# Altium footprint library 103308-2.PcbLib: 2 footprints
Each footprint in its own frame and in the unit in brackets; x right, y up, seen from the top. Pads: shape width x height; smd on the part's side, far side on the other; paste and mask are expansions set on the pad; w line width, h text height; cw(c..) or ccw(c..) is an arc to the next point about the centre after c.
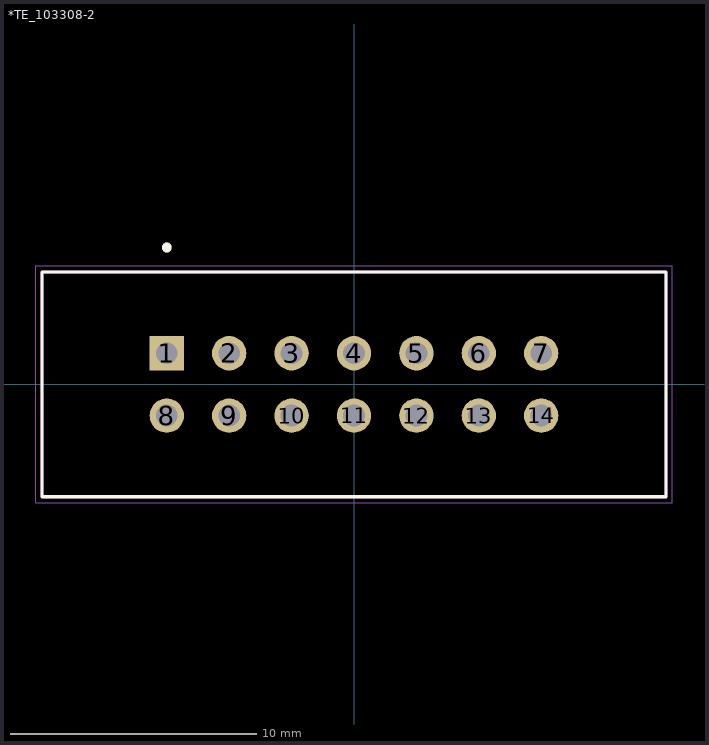
[diagram p0: the footprints below, top view; thin cyan lines are the x and y axes]

## *TE_103308-2 [mil]
pads (14):
  rect 55x55 hole 35: 1(-300,50)
  round 55 hole 35: 2(-200,50) 3(-100,50) 4(0,50) 5(100,50) 6(200,50) 7(300,50) 8(-300,-50) 9(-200,-50) 10(-100,-50) 11(0,-50) 12(100,-50) 13(200,-50) 14(300,-50)
Top Overlay:
  circle w7.87: c-300,219.37 r3.94
  lines w5: -500,-180 500,-180 500,180 -500,180 -500,-180
Mechanical 4:
  circle w7.87: c-300,219.37 r3.94
  circle w7.87: c-300,219.37 r3.94
  lines w5: -500,-180 500,-180 ; -500,-180 -500,180 ; -500,-180 500,-180 ; -500,-180 -500,180 ; -500,180 500,180 ; -500,180 500,180 ; 500,-180 500,180 ; 500,-180 500,180
Mechanical 16:
  lines w1.97: -509.84,-189.84 509.84,-189.84 509.84,189.84 -509.84,189.84 -509.84,-189.84

## PCBComponent_1 [mil]